# Altium footprint library auto.PcbLib: 16 footprints
Each footprint in its own frame and in the unit in brackets; x right, y up, seen from the top. Pads: shape width x height; smd on the part's side, far side on the other; paste and mask are expansions set on the pad; w line width, h text height; cw(c..) or ccw(c..) is an arc to the next point about the centre after c.
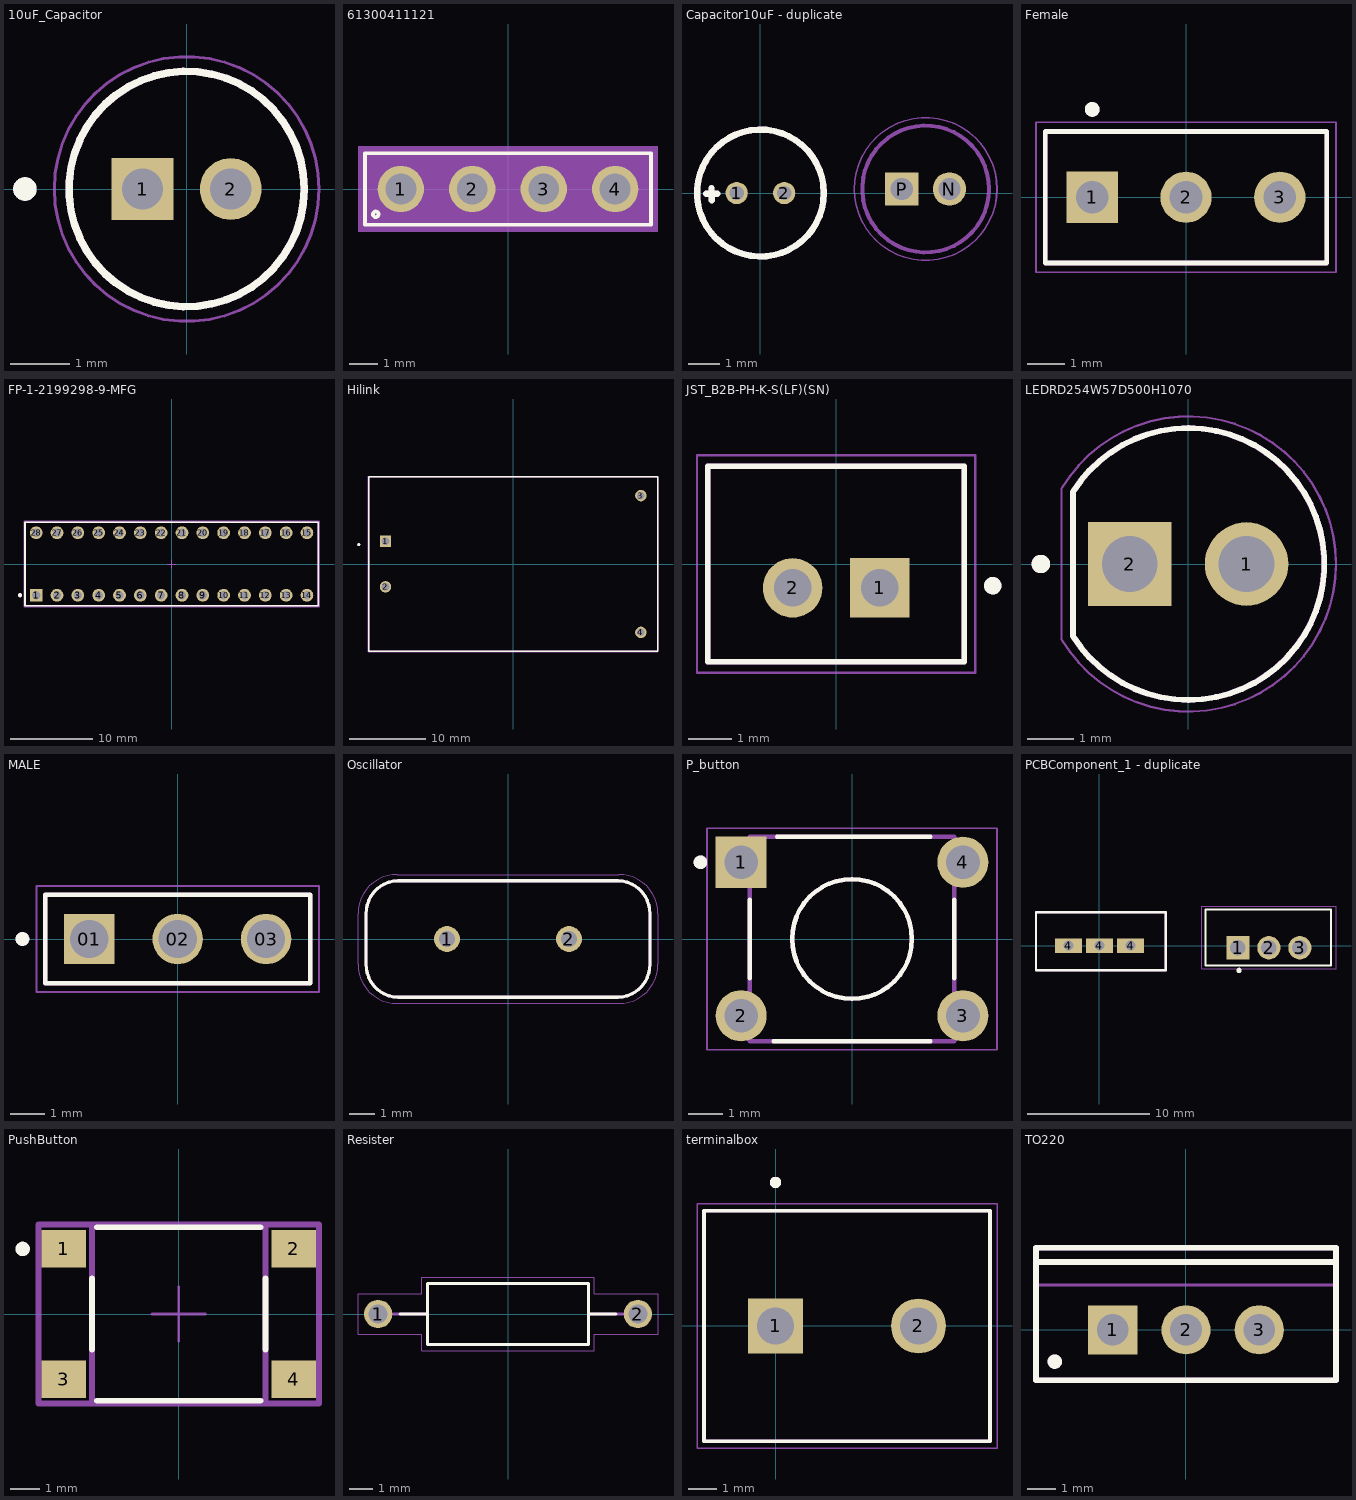
[diagram p0: the footprints below, top view; thin cyan lines are the x and y axes]

## 10uF_Capacitor [mm]
pads (2):
  rect 1.05x1.05 hole 0.7: 1(-0.75,0)
  round 1.05 hole 0.7: 2(0.75,0)
Top Overlay:
  circle w0.127: c0,0 r2
  circle w0.2: c-2.75,0 r0.1
Top Assembly:
  circle w0.127: c0,0 r2
  circle w0.2: c-2.75,0 r0.1
  text ".Designator" at -4.953,-0.296 h1.02
Mechanical 13:
  circle w0.127: c0,0 r2
  circle w0.2: c-2.75,0 r0.1
Mechanical 15:
  circle w0.05: c0,0 r2.25
3D body "step_temp.STEP": height 7, standoff -17, extent -2,-1.999 2,1.999

## 61300411121 [mm]
pads (4):
  round 1.65 hole 1.1: 1(-3.81,0) 2(-1.27,0) 3(1.27,0) 4(3.81,0)
Top Overlay:
  circle w0.127: c-4.7,-0.9 r0.1
  lines w0.127: -5.08,-1.27 5.08,-1.27 5.08,1.27 -5.08,1.27 -5.08,-1.27
Top Assembly:
  circle w0.127: c-4.7,-0.9 r0.1
  lines w0.127: -5.08,-1.27 5.08,-1.27 5.08,1.27 -5.08,1.27 -5.08,-1.27
  text ".Designator" at -7.62,-0.508 h1.52
Mechanical 15:
  region: 5.33,-1.52 -5.33,-1.52 -5.33,1.52 5.33,1.52

## Capacitor10uF - duplicate [mm]
pads (4):
  round 0.7 hole 0.45: 1(-0.75,0) 2(0.75,0)
  round 1.05 hole 0.7: N(5.957,0.127)
  rect 1.05x1.05 hole 0.7: P(4.457,0.127)
Top Overlay:
  circle w0.2: c0,0 r2
  lines w0.2: -1.714,-0.025 -1.358,-0.025 ; -1.542,0.152 -1.536,-0.229
Top Assembly:
  circle w0.2: c0,0 r2
  circle w0.05: c5.207,0.127 r2.25
  circle w0.127: c5.207,0.127 r2
  circle w0.127: c5.207,0.127 r2
  lines w0.2: -1.714,-0.025 -1.358,-0.025 ; -1.542,0.152 -1.536,-0.229

## Female [mm]
pads (3):
  rect 1.388x1.388 hole 0.88: 1(-2.54,0)
  round 1.388 hole 0.88: 2(0,0) 3(2.54,0)
Top Overlay:
  circle w0.2: c-2.54,2.38 r0.1
  lines w0.127: -3.81,-1.78 3.81,-1.78 3.81,1.78 -3.81,1.78 -3.81,-1.78
Top Assembly:
  circle w0.2: c-2.54,2.38 r0.1
  lines w0.127: -3.81,-1.78 3.81,-1.78 3.81,1.78 -3.81,1.78 -3.81,-1.78
  text ".Designator" at -7.493,-0.508 h1.52
Mechanical 13:
  circle w0.2: c-2.54,2.38 r0.1
  lines w0.127: -3.81,-1.78 3.81,-1.78 3.81,1.78 -3.81,1.78 -3.81,-1.78
Mechanical 15:
  lines w0.05: -4.06,-2.03 4.06,-2.03 4.06,2.03 -4.06,2.03 -4.06,-2.03
3D body "5-535541-1--3DModel-STEP-1.STEP": height 6.74, standoff -3.16, extent -3.81,-1.778 3.81,1.778

## FP-1-2199298-9-MFG [mm]
pads (28):
  rect 1.55x1.55 hole 1 paste-1000 mask+0: 1(-16.51,-3.81)
  round 1.55 hole 1 paste-1000 mask+0: 2(-13.97,-3.81) 3(-11.43,-3.81) 4(-8.89,-3.81) 5(-6.35,-3.81) 6(-3.81,-3.81) 7(-1.27,-3.81) 8(1.27,-3.81) 9(3.81,-3.81) 10(6.35,-3.81) 11(8.89,-3.81) 12(11.43,-3.81) 13(13.97,-3.81) 14(16.51,-3.81) 15(16.51,3.81) 16(13.97,3.81) 17(11.43,3.81) 18(8.89,3.81) 19(6.35,3.81) 20(3.81,3.81) 21(1.27,3.81) 22(-1.27,3.81) 23(-3.81,3.81) 24(-6.35,3.81) 25(-8.89,3.81) 26(-11.43,3.81) 27(-13.97,3.81) 28(-16.51,3.81)
Top Overlay:
  circle w0.25: c-18.48,-3.81 r0.125
  lines w0.2: -17.88,-5.1 17.88,-5.1 17.88,5.1 -17.88,5.1 -17.88,-5.1
Top Assembly:
  lines w0.2: -17.98,-5.2 17.98,-5.2 17.98,5.2 -17.98,5.2 -17.98,-5.2
  text ".Designator" at -5.588,-0.539 h2.54
Top 3D Body:
  lines w0.2: -17.88,-5.1 17.88,-5.1 17.88,5.1 -17.88,5.1 -17.88,-5.1
Top Courtyard:
  lines w0.2: -17.98,-5.2 17.98,-5.2 17.98,5.2 -17.98,5.2 -17.98,-5.2
Top Component Center:
  lines w0.1: -0.5,0 0.5,0 ; 0,-0.5 0,0.5
3D body "Conn_TE_Connectivity_1-2199298-9_eec.STEP": height 0.25, standoff 0, extent -17.98,-5.2 17.98,5.2

## Hilink [mm]
height 15
pads (4):
  rect 1.508x1.508 / inner round 1.508 / far side rect 1.508x1.508 hole 1: 1(-16.8,3)
  round 1.508 hole 1: 2(-16.8,-3) 3(16.8,9) 4(16.8,-9)
Top Overlay:
  circle w0.2: c-20.32,2.54 r0.1
  lines w0.2: -19,-11.5 -19,11.5 19,11.5 19,-11.5 -19,-11.5
Top Assembly:
  circle w0.2: c-20.32,2.54 r0.1
  lines w0.2: -19,-11.5 -19,11.5 19,11.5 19,-11.5 -19,-11.5
  text ".Designator" at -7.747,-0.508 h1.52
Mechanical 13:
  circle w0.2: c-20.32,2.54 r0.1
  lines w0.127: -19,-11.5 -19,-3.855 -19,3.855 -19,11.5 ; -18.923,-11.5 18.923,-11.5 ; -18.923,11.5 18.923,11.5 ; 19,-11.5 19,11.5
Mechanical 15:
  lines w0.05: -19.05,-11.557 -19.05,11.557 19.05,11.557 19.05,-11.557 -19.05,-11.557
3D body "step_temp.STEP": height 15, standoff -5, extent -17,-10.1 17,10.1

## JST_B2B-PH-K-S(LF)(SN) [mm]
pads (2):
  rect 1.368x1.368 / inner round 1.368 / far side rect 1.368x1.368 hole 0.86: 1(1,-0.55)
  round 1.368 hole 0.86: 2(-1,-0.55)
Top Overlay:
  circle w0.2: c3.6,-0.5 r0.1
  lines w0.127: -2.95,-2.25 2.95,-2.25 2.95,2.25 -2.95,2.25 -2.95,-2.25
Mechanical 13:
  circle w0.2: c3.6,-0.5 r0.1
  lines w0.127: -2.95,-2.25 -2.95,2.25 2.95,2.25 2.95,-2.25 -2.95,-2.25
Mechanical 15:
  lines w0.05: -3.2,-2.5 -3.2,2.5 3.2,2.5 3.2,-2.5 -3.2,-2.5
3D body "B2B-PH-K-S(LF)(SN)--3DModel-STEP-56544.STEP": height 6.01, standoff -3.39, extent -2.95,-2.25 2.95,2.25

## LEDRD254W57D500H1070 [mm]
height 10.7
pads (2):
  round 1.815 hole 1.21: 1(1.27,0)
  rect 1.815x1.815 / inner round 1.815 / far side rect 1.815x1.815 hole 1.21: 2(-1.27,0)
Top Overlay:
  circle w0.2: c-3.2,0 r0.1
  lines w0.127: -2.5,-1.566 ccw(c0.006,0) -2.5,1.566 -2.5,-1.566
Top Assembly:
  circle w0.2: c-3.206,0 r0.1
  lines w0.127: -2.506,-1.566 ccw(c0,0) -2.506,1.566 -2.506,-1.566
  text ".Designator" at -7.493,-0.508 h1.52
Mechanical 13:
  circle w0.2: c-3.2,0 r0.1
  lines w0.127: -2.5,-1.566 ccw(c0.006,0) -2.5,1.566 -2.5,-1.566
Mechanical 15:
  lines w0.05: -2.75,-1.64 -2.75,1.64 ; -2.743,-1.652 ccw(c0.007,0) -2.743,1.652
3D body "step_temp.STEP": height 9.1, standoff -17.8, extent -2.6,-2.95 2.95,2.95

## MALE [mm]
pads (3):
  rect 1.45x1.45 / inner round 1.45 / far side rect 1.45x1.45 hole 1.1: 01(-2.54,0)
  round 1.45 hole 1.1: 02(0,0) 03(2.54,0)
Top Overlay:
  circle w0.2: c-4.46,0 r0.1
  lines w0.127: -3.81,-1.27 3.81,-1.27 3.81,1.27 -3.81,1.27 -3.81,-1.27
Mechanical 13:
  circle w0.2: c-4.46,0 r0.1
  lines w0.127: -3.81,-1.27 3.81,-1.27 3.81,1.27 -3.81,1.27 -3.81,-1.27
Mechanical 15:
  lines w0.05: -4.06,-1.52 4.06,-1.52 4.06,1.52 -4.06,1.52 -4.06,-1.52

## Oscillator [mm]
pads (2):
  round 1.03 hole 0.63: 1(-2.44,0) 2(2.44,0)
Top Overlay:
  lines w0.127: -5.675,-1.012 ccw(c-4.38,-1.035) -4.403,-2.33 ; -5.675,-1.01 -5.675,1.01 ; -5.675,1.012 cw(c-4.38,1.035) -4.403,2.33 ; -4.405,-2.33 4.405,-2.33 ; -4.405,2.33 4.405,2.33 ; 4.403,-2.33 ccw(c4.38,-1.035) 5.675,-1.012 ; 4.403,2.33 cw(c4.38,1.035) 5.675,1.012 ; 5.675,-1.01 5.675,1.01
Top Assembly:
  lines w0.127: -5.675,-1.012 ccw(c-4.38,-1.035) -4.403,-2.33 ; -5.675,-1.01 -5.675,1.01 ; -5.675,1.012 cw(c-4.38,1.035) -4.403,2.33 ; -4.405,-2.33 4.405,-2.33 ; -4.405,2.33 4.405,2.33 ; 4.403,-2.33 ccw(c4.38,-1.035) 5.675,-1.012 ; 4.403,2.33 cw(c4.38,1.035) 5.675,1.012 ; 5.675,-1.01 5.675,1.01
  text ".Designator" at -7.62,-0.508 h1.52
Mechanical 13:
  lines w0.127: -5.675,-1.012 ccw(c-4.38,-1.035) -4.403,-2.33 ; -5.675,-1.01 -5.675,1.01 ; -5.675,1.012 cw(c-4.38,1.035) -4.403,2.33 ; -4.405,-2.33 4.405,-2.33 ; -4.405,2.33 4.405,2.33 ; 4.403,-2.33 ccw(c4.38,-1.035) 5.675,-1.012 ; 4.403,2.33 cw(c4.38,1.035) 5.675,1.012 ; 5.675,-1.01 5.675,1.01
Mechanical 15:
  lines w0.05: -6,-1.01 ccw(c-4.43,-1.01) -4.43,-2.58 4.43,-2.58 ccw(c4.43,-1.01) 6,-1.01 6,1.01 ccw(c4.43,1.01) 4.43,2.58 -4.43,2.58 ccw(c-4.43,1.01) -6,1.01 -6,-1.01
3D body "ECS-160-20-4.STEP": height 3.51, standoff -12.69, extent -5.675,-2.325 5.675,2.325

## P_button [mm]
pads (4):
  rect 1.498x1.498 / inner round 1.498 / far side rect 1.498x1.498 hole 0.99: 1(-3.25,2.25)
  round 1.498 hole 0.99: 2(-3.25,-2.25) 3(3.25,-2.25) 4(3.25,2.25)
Top Overlay:
  circle w0.2: c-4.445,2.25 r0.1
  circle w0.127: c0,0 r1.755
  lines w0.127: -2.995,-1.15 -2.995,1.15 ; -2.3,-2.995 2.3,-2.995 ; -2.2,2.995 2.3,2.995 ; 3,-1.15 3,1.15
Top Assembly:
  circle w0.2: c-4.445,2.25 r0.1
  circle w0.127: c0,0 r1.755
  lines w0.127: -2.995,-1.15 -2.995,1.15 ; -2.3,-2.995 2.3,-2.995 ; -2.2,2.995 2.3,2.995 ; 3,-1.15 3,1.15
  text ".Designator" at -7.874,-0.508 h1.52
Mechanical 13:
  circle w0.127: c0,0 r1.755
  lines w0.127: -2.995,-2.995 2.995,-2.995 2.995,2.995 -2.995,2.995 -2.995,-2.995
Mechanical 15:
  lines w0.05: -4.25,-3.25 4.25,-3.25 4.25,3.25 -4.25,3.25 -4.25,-3.25
3D body "step_temp.STEP": height 5.01, standoff -3.51, extent -3.898,-2.995 3.9,2.995

## PCBComponent_1 - duplicate [mm]
pads (6):
  rect 1.91x1.91 hole 1.27: 1(11.354,-0.178)
  round 1.91 hole 1.27: 2(13.894,-0.178) 3(16.434,-0.178)
  rect 2.2x1.2 hole 0.8 square: 4(-2.55,0) 4(0,0) 4(2.55,0)
Top Overlay:
  circle w0.2: c11.444,-2.028 r0.112
  lines w0.152: 8.687,-1.628 8.687,2.972 18.994,2.972 18.994,-1.628 8.687,-1.628
  lines w0.2: -5.207,-2.032 -5.207,-0.089 -5.207,2.375 -5.207,2.718 5.436,2.718 5.436,-2.032 -5.207,-2.032
Top Assembly:
  lines w0.2: -5.207,-2.032 -5.207,-0.089 -5.207,2.375 -5.207,2.718 5.436,2.718 5.436,-2.032 -5.207,-2.032
Mechanical 15:
  lines w0.05: 8.394,-1.878 8.394,3.222 19.394,3.222 19.394,-1.878 8.394,-1.878
3D body "L7805ABV (1).STEP": height 15.89, standoff -14.69, extent -5.036,-1.854 5.264,2.718

## PushButton [mm]
pads (4):
  rect 1.55x1.3 smd paste+0 mask+0: 1(-3.975,2.25) 2(3.975,2.25) 3(-3.975,-2.25) 4(3.975,-2.25)
Top Overlay:
  circle w0.25: c-5.4,2.25 r0.125
  lines w0.2: -3,-1.225 -3,1.225 ; -2.825,-3 2.825,-3 ; -2.825,3 2.825,3 ; 3,-1.225 3,1.225
Top Assembly:
  lines w0.2: -4.85,-3.1 4.85,-3.1 4.85,3.1 -4.85,3.1 -4.85,-3.1
  text ".Designator" at -2.1,-0.112 h1
Top 3D Body:
  lines w0.2: -3,-3 3,-3 3,3 -3,3 -3,-3
Top Courtyard:
  lines w0.2: -4.85,-3.1 4.85,-3.1 4.85,3.1 -4.85,3.1 -4.85,-3.1
Top Component Center:
  lines w0.1: -0.93,0 0.93,0 ; 0,-0.93 0,0.93
3D body "Switch_C&K_PTS645SM43SMTR92LFS_eec.STEP": height 0.25, standoff 0, extent -4.85,-3.1 4.85,3.1

## Resister [mm]
pads (2):
  round 1.2 hole 0.8: 1(-5.5,0) 2(5.5,0)
Top Overlay:
  lines w0.127: -4.58,0 -3.4,0 ; 4.58,0 3.4,0 ; -3.4,0 -3.4,-1.3 3.4,-1.3 3.4,0 ; -3.4,0 -3.4,1.3 3.4,1.3 3.4,0
Top Assembly:
  lines w0.127: -4.58,0 -3.4,0 ; 4.58,0 3.4,0 ; -3.4,0 -3.4,-1.3 3.4,-1.3 3.4,0 ; -3.4,0 -3.4,1.3 3.4,1.3 3.4,0
  text ".Designator" at -7.62,-0.508 h1.52
Mechanical 13:
  lines w0.127: -4.9,0 -3.4,0 ; 4.9,0 3.4,0 ; -3.4,0 -3.4,-1.3 3.4,-1.3 3.4,0 ; -3.4,0 -3.4,1.3 3.4,1.3 3.4,0
Mechanical 15:
  lines w0.05: -6.35,-0.85 -6.35,0.85 -3.65,0.85 -3.65,1.55 3.65,1.55 3.65,0.85 6.35,0.85 6.35,-0.85 3.65,-0.85 3.65,-1.55 -3.65,-1.55 -3.65,-0.85 -6.35,-0.85
3D body "step_temp.STEP": height 2.6, standoff -25.53, extent -5.775,-1.3 5.775,1.3

## terminalbox [mm]
pads (2):
  rect 1.95x1.95 / inner round 1.95 / far side rect 1.95x1.95 hole 1.3: 1(0,0)
  round 1.95 hole 1.3: 2(5.08,0)
Top Overlay:
  circle w0.2: c0,5.1 r0.1
  lines w0.127: -2.54,-4.1 -2.54,4.1 7.62,4.1 7.62,-4.1 -2.54,-4.1
Top Assembly:
  circle w0.2: c0,5.1 r0.1
  lines w0.127: -2.54,-4.1 -2.54,4.1 7.62,4.1 7.62,-4.1 -2.54,-4.1
  text ".Designator" at -4.826,-0.508 h1.52
Mechanical 13:
  circle w0.2: c0,5.1 r0.1
  lines w0.127: -2.54,-4.1 -2.54,4.1 7.62,4.1 7.62,-4.1 -2.54,-4.1
Mechanical 15:
  lines w0.05: -2.79,-4.35 7.87,-4.35 7.87,4.35 -2.79,4.35 -2.79,-4.35

## TO220 [mm] "TO, Thru-Hole, Vertical, Heatsink Mounted; 3 In-Line Leads; Pitch 2.54 mm"
height 19.7
pads (3):
  rect 1.7x1.7 hole 1.1: 1(-2.54,0)
  round 1.7 hole 1.1: 2(0,0) 3(2.54,0)
Top Overlay:
  circle w0.25: c-4.55,-1.1 r0.125
  lines w0.2: -5.2,2.35 5.2,2.35 ; -5.2,-1.75 5.2,-1.75 5.2,2.85 -5.2,2.85 -5.2,-1.75
Top Assembly:
  circle w0.25: c-4.55,-1.1 r0.125
  lines w0.2: -5.2,2.35 5.2,2.35 ; -5.2,-1.75 5.2,-1.75 5.2,2.85 -5.2,2.85 -5.2,-1.75
  text ".Designator" at -7.62,-0.508 h1.52
Mechanical 13:
  lines w0.1: -5.2,1.55 5.2,1.55 ; -5.2,-1.75 -5.2,2.85 5.2,2.85 5.2,-1.75 -5.2,-1.75
Mechanical 15:
  lines w0.1: -0.5,0 0.5,0 ; 0,-0.5 0,0.5
3D body "L7805ABV (1).STEP": height 15.89, standoff -14.69, extent -5.099,-1.702 5.201,2.87